# Altium schematic symbol library BD9G101G-TR.Schlib: 1 symbol
Pins are listed as number, name and electrical type; pins without a type are passive.

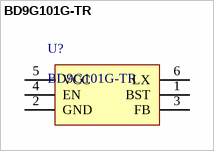
[diagram p0: symbol BD9G101G-TR]

## BD9G101G-TR
designator U?
Buck Switching Regulator IC Positive Adjustable 1V 1 Output 500mA SOT-23-6
pins: 1 BST, 2 GND, 3 FB, 4 EN, 5 VCC (power), 6 LX